# Altium footprint library NRF52832_Ball.PcbLib: 38 footprints (part 3 of 3)
Each footprint in its own frame and in the unit in brackets; x right, y up, seen from the top. Pads: shape width x height; smd on the part's side, far side on the other; paste and mask are expansions set on the pad; w line width, h text height; cw(c..) or ccw(c..) is an arc to the next point about the centre after c.
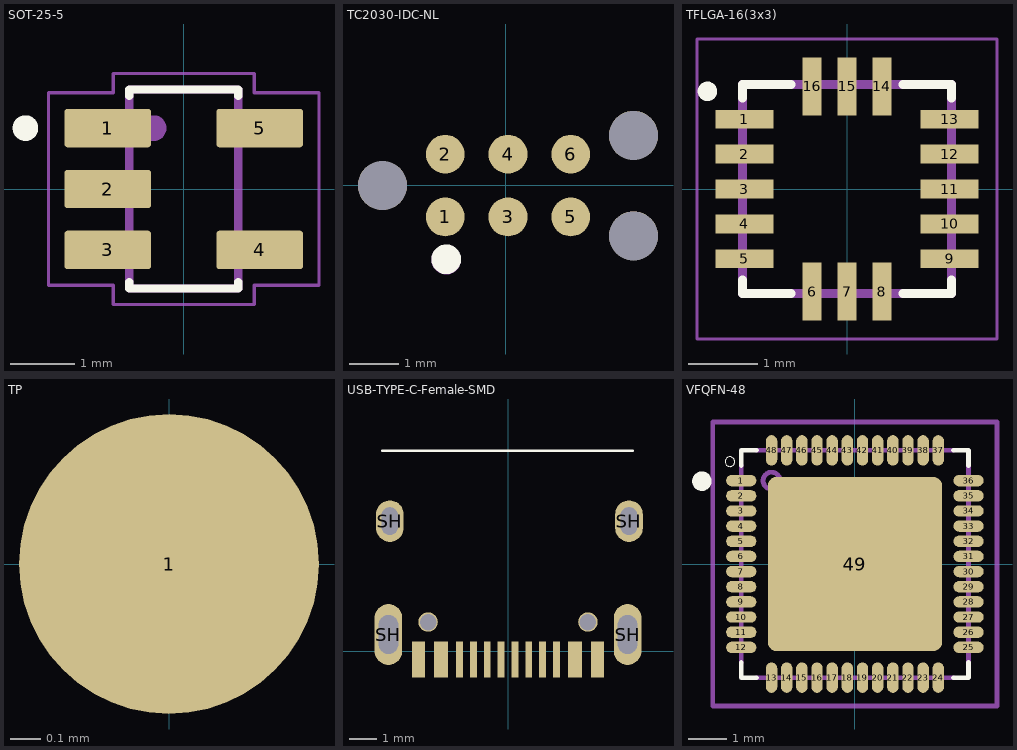
[diagram p2: the footprints below, top view; thin cyan lines are the x and y axes]

## SOT-25-5 [mm]
pads (5):
  rrect15% 1.35x0.6 smd: 1(-1.185,0.95) 2(-1.185,0) 3(-1.185,-0.95) 4(1.185,-0.95) 5(1.185,0.95)
Top Overlay:
  circle w0.2: c-2.469,0.95 r0.1
  lines w0.127: -0.85,-1.45 -0.85,-1.55 0.85,-1.55 0.85,-1.45 ; -0.85,1.45 -0.85,1.55 0.85,1.55 0.85,1.45
Mechanical 13:
  circle w0.2: c-0.469,0.95 r0.1
  lines w0.127: -0.85,-1.55 -0.85,1.55 0.85,1.55 0.85,-1.55 -0.85,-1.55
Mechanical 15:
  lines w0.05: -2.11,-1.5 -1.1,-1.5 -1.1,-1.8 1.1,-1.8 1.1,-1.5 2.11,-1.5 2.11,1.5 1.1,1.5 1.1,1.8 -1.1,1.8 -1.1,1.5 -2.11,1.5 -2.11,-1.5
3D body "step_temp.STEP": height 1.4, standoff 0, extent -1.4,-1.5 1.4,1.5

## TC2030-IDC-NL [mm]
pads (9):
  round 0.787 smd paste-1: 1(-1.221,-0.644) 2(-1.221,0.626) 3(0.049,-0.644) 4(0.049,0.626) 5(1.319,-0.644) 6(1.319,0.626)
  round 0.991 hole 0.991 unplated: ""(-2.491,-0.009) ""(2.589,-1.025) ""(2.589,1.007)
Top Overlay:
  circle w0.3: c-1.2,-1.5 r0.15
Mechanical 13:
  circle w0.3: c-1.201,-1.509 r0.15

## TFLGA-16(3x3) [mm]
pads (16):
  rect 0.83x0.27 smd: 1(-1.47,1) 2(-1.47,0.5) 3(-1.47,0) 4(-1.47,-0.5) 5(-1.47,-1) 9(1.47,-1) 10(1.47,-0.5) 11(1.47,0) 12(1.47,0.5) 13(1.47,1)
  rect 0.27x0.83 smd: 6(-0.5,-1.47) 7(0,-1.47) 8(0.5,-1.47) 14(0.5,1.47) 15(0,1.47) 16(-0.5,1.47)
Top Overlay:
  circle w0.14: c-2,1.4 r0.07
  lines w0.127: -1.5,-1.3 -1.5,-1.5 -0.8,-1.5 ; -1.5,1.3 -1.5,1.5 -0.8,1.5 ; 0.8,-1.5 1.5,-1.5 1.5,-1.3 ; 0.8,1.5 1.5,1.5 1.5,1.3
Mechanical 13:
  lines w0.127: -1.5,-1.5 -1.5,1.5 1.5,1.5 1.5,-1.5 -1.5,-1.5
Mechanical 15:
  lines w0.05: -2.15,-2.15 -2.15,2.15 2.15,2.15 2.15,-2.15 -2.15,-2.15
3D body "QFN_31DLTR_STM.step": height 0.99, standoff 0, extent -1.575,-1.575 1.575,1.575

## TP [mm]
pads (1):
  round 1 smd: 1(0,0)

## USB-TYPE-C-Female-SMD [mm]
pads (22):
  rect 0.25x1.3 smd: A1(3.351,-0.3) A4(2.55,-0.3) A5(1.25,-0.3) A6(0.25,-0.3) A7(-0.25,-0.3) A8(-1.25,-0.3) A9(-2.3,-0.3) A12(-3.125,-0.3) B1(-3.351,-0.3) B4(-2.55,-0.3) B5(-1.75,-0.3) B6(-0.75,-0.3) B7(0.75,-0.3) B8(1.75,-0.3) B9(2.3,-0.3) B12(3.125,-0.3)
  oval 1x2.2 hole 1.4 slot 0.7 at 0 deg: SH(-4.325,0.6) SH(4.325,0.6)
  oval 1x1.5 hole 1 slot 0.6 at 0 deg: SH(-4.275,4.7) SH(4.375,4.7)
  round 0.7 hole 0.6: ""(-2.89,1.05) ""(2.89,1.05)
Top Overlay:
  lines w0.1: -4.55,7.25 4.5,7.25
3D body "USB Type C Port (SMD Type).STEP": height 3.18, standoff -1.02, extent -4.47,-0.6 4.47,7.3

## VFQFN-48 [mm]
pads (49):
  oval 0.8x0.3 smd mask+0: 1(-3,2.2) 2(-3,1.8) 3(-3,1.4) 4(-3,1) 5(-3,0.6) 6(-3,0.2) 7(-3,-0.2) 8(-3,-0.6) 9(-3,-1) 10(-3,-1.4) 11(-3,-1.8) 12(-3,-2.2) 25(3,-2.2) 26(3,-1.8) 27(3,-1.4) 28(3,-1) 29(3,-0.6) 30(3,-0.2) 31(3,0.2) 32(3,0.6) 33(3,1) 34(3,1.4) 35(3,1.8) 36(3,2.2)
  oval 0.3x0.8 smd mask+0: 13(-2.2,-3) 14(-1.8,-3) 15(-1.4,-3) 16(-1,-3) 17(-0.6,-3) 18(-0.2,-3) 19(0.2,-3) 20(0.6,-3) 21(1,-3) 22(1.4,-3) 23(1.8,-3) 24(2.2,-3) 37(2.2,3) 38(1.8,3) 39(1.4,3) 40(1,3) 41(0.6,3) 42(0.2,3) 43(-0.2,3) 44(-0.6,3) 45(-1,3) 46(-1.4,3) 47(-1.8,3) 48(-2.2,3)
  rrect10% 4.6x4.6 smd paste-3: 49(0,0)
Top Overlay:
  circle w0: c-3.3,2.7 r0.127
  circle w0.254: c-4.039,2.184 r0.13
  lines w0.127: -3,-2.6 -3,-3 -2.6,-3 ; -3,2.6 -3,3 -2.6,3 ; 2.6,-3 3,-3 3,-2.6 ; 2.6,3 3,3 3,2.6
Top Paste:
  region: 1.45,-1.451 -1.451,-1.451 -1.451,1.45 1.45,1.45
Top Solder:
  drawing of 48 lines, arcs and shapes, not listed
Mechanical 13:
  drawing of 53 lines, arcs and shapes, not listed
Mechanical 15:
  lines w0.127: -3.75,-3.75 -3.75,3.75 3.75,3.75 3.75,-3.75 -3.75,-3.75
3D body "NRF52832-QFAA-R--3DModel-STEP-56544.STEP": height 0.9, standoff 0, extent -3,-3 3,3